# Altium footprint library PcbLib1.PcbLib: 2 footprints
Each footprint in its own frame and in the unit in brackets; x right, y up, seen from the top. Pads: shape width x height; smd on the part's side, far side on the other; paste and mask are expansions set on the pad; w line width, h text height; cw(c..) or ccw(c..) is an arc to the next point about the centre after c.
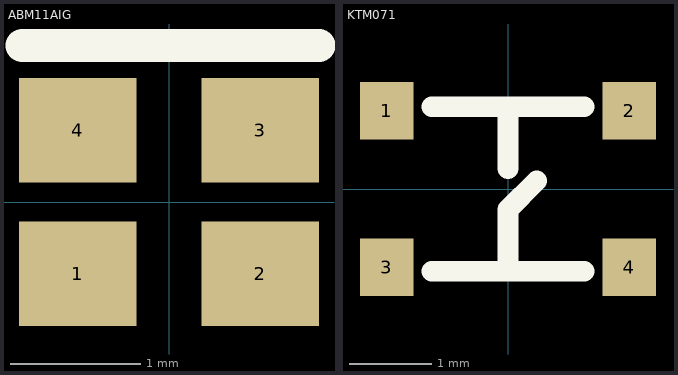
[diagram p0: the footprints below, top view; thin cyan lines are the x and y axes]

## ABM11AIG [mm]
pads (4):
  rect 0.9x0.8 smd: 1(-0.7,-0.55) 2(0.7,-0.55) 3(0.7,0.55) 4(-0.7,0.55)
Top Overlay:
  lines w0.254: -1.125,1.2 1.15,1.2 0.55,1.2
3D body: height 0.55, standoff 0, extent -1,-0.8 1,0.8

## KTM071 [mm]
pads (4):
  rect 0.65x0.7 smd: 1(-1.475,0.95) 2(1.475,0.95) 3(-1.475,-0.95) 4(1.475,-0.95)
Top Overlay:
  lines w0.254: -0.925,-1 0.925,-1 ; -0.925,1 0.925,1 ; 0,-1 0,-0.25 0.35,0.1 ; 0,0.25 0,1